# Altium schematic symbol library FTSH-105-01-X-DV-K.Schlib: 1 symbol
Pins are listed as number, name and electrical type; pins without a type are passive.

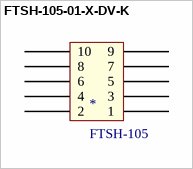
[diagram p0: symbol FTSH-105-01-X-DV-K]

## FTSH-105-01-X-DV-K
designator *, comment FTSH-105
CONN HDR SM FTSH-105 10POS DUAL .05"
pins: 1, 2, 3, 4, 5, 6, 7, 8, 9, 10